# Altium footprint library 62684-401100ALF.PcbLib: 1 footprints
Each footprint in its own frame and in the unit in brackets; x right, y up, seen from the top. Pads: shape width x height; smd on the part's side, far side on the other; paste and mask are expansions set on the pad; w line width, h text height; cw(c..) or ccw(c..) is an arc to the next point about the centre after c.
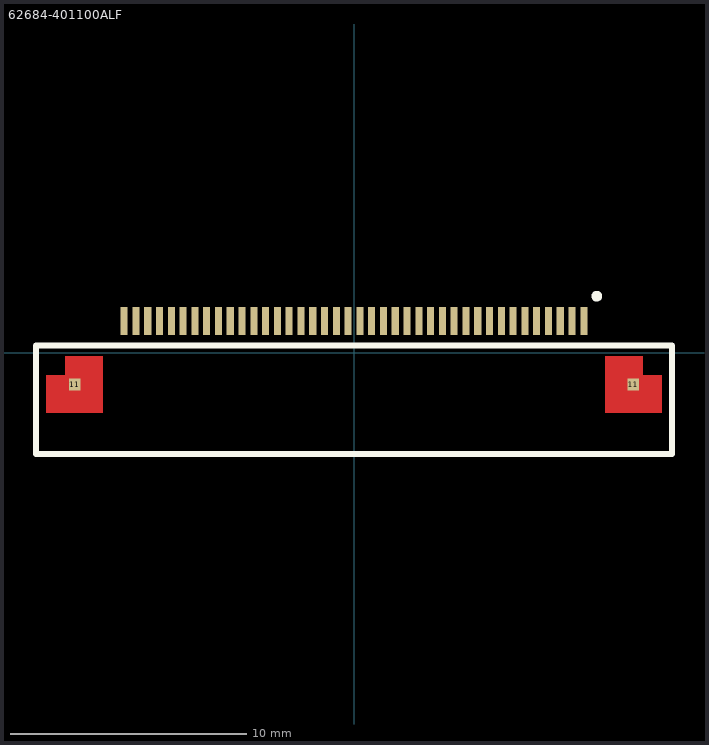
[diagram p0: the footprint, top view; thin cyan lines are the x and y axes]

## 62684-401100ALF [mm]
pads (42):
  rect 0.3x1.2 smd: 1(9.75,1.35) 2(9.25,1.35) 3(8.75,1.35) 4(8.25,1.35) 5(7.75,1.35) 6(7.25,1.35) 7(6.75,1.35) 8(6.25,1.35) 9(5.75,1.35) 10(5.25,1.35) 11(4.75,1.35) 12(4.25,1.35) 13(3.75,1.35) 14(3.25,1.35) 15(2.75,1.35) 16(2.25,1.35) 17(1.75,1.35) 18(1.25,1.35) 19(0.75,1.35) 20(0.25,1.35) 21(-0.25,1.35) 22(-0.75,1.35) 23(-1.25,1.35) 24(-1.75,1.35) 25(-2.25,1.35) 26(-2.75,1.35) 27(-3.25,1.35) 28(-3.75,1.35) 29(-4.25,1.35) 30(-4.75,1.35) 31(-5.25,1.35) 32(-5.75,1.35) 33(-6.25,1.35) 34(-6.75,1.35) 35(-7.25,1.35) 36(-7.75,1.35) 37(-8.25,1.35) 38(-8.75,1.35) 39(-9.25,1.35) 40(-9.75,1.35)
  rect 0.5x0.5 smd: 11(-11.85,-1.35) 11(11.85,-1.35)
Top Layer:
  region: 10.65,-2.55 10.65,-0.15 12.25,-0.15 12.25,-0.95 13.05,-0.95 13.05,-2.55
  region: -10.65,-2.55 -10.65,-0.15 -12.25,-0.15 -12.25,-0.95 -13.05,-0.95 -13.05,-2.55
Top Overlay:
  circle w0.254: c10.3,2.4 r0.1
  lines w0.254: -13.5,-4.3 -13.5,0.3 13.5,0.3 13.5,-4.3 -13.5,-4.3
3D body "s62684_401100alf.stp": height 2.01, standoff -0.05, extent -12.75,-4.024 12.75,1.616